# EAGLE library part SSM6P36TU (library Bauteile)
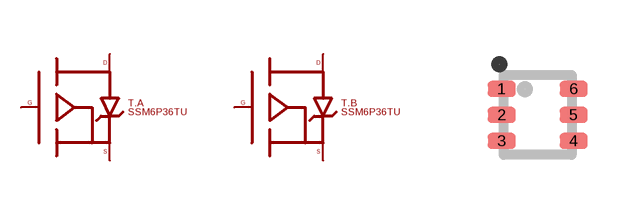
[diagram p83: symbol with the pads of UF6; footprint UF6]

Designator prefix T; gates .A=MOSFET_P_WITH_BODYDIODE .B=MOSFET_P_WITH_BODYDIODE

## SSM6P36TU  [UF6]
1  .A:S
2  .A:G
3  .B:D
4  .B:S
5  .B:G
6  .A:D

## Footprint UF6 (pad centres in mm)
smd 0.7 x 0.4: 1 -0.9,0.65; 2 -0.9,0; 3 -0.9,-0.65; 4 0.9,-0.65; 5 0.9,0; 6 0.9,0.65